# Altium schematic symbol library PI3A412ZHE.SchLib: 2 symbols
Pins are listed as number, name and electrical type; pins without a type are passive.

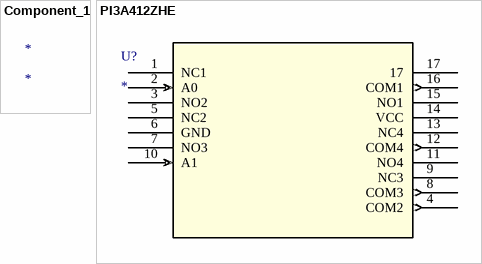
[diagram p0: symbols Component_1 to PI3A412ZHE]

## Component_1
designator *

## PI3A412ZHE
designator U?
No Description Available; Mfr_Name: Pericom; RefDes: RefDes; Type: Type
footprint ZH16_PER
pins: 1 NC1, 2 A0 (in), 3 NO2, 4 COM2 (out), 5 NC2, 6 GND (power), 7 NO3, 8 COM3 (out), 9 NC3, 10 A1 (in), 11 NO4, 12 COM4 (out), 13 NC4, 14 VCC (power), 15 NO1, 16 COM1 (out), 17